# EAGLE library part REPICO_STEPPER (library stepper_module)
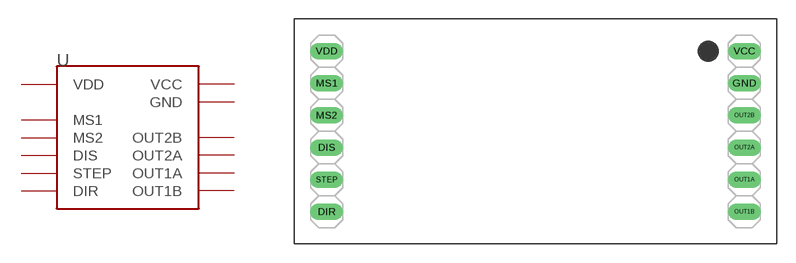
[diagram p0: symbol with the pads of REPICO_STEPPER; footprint REPICO_STEPPER]

Designator prefix -

## REPICO_STEPPER  [REPICO_STEPPER]
DIR  DIR  in
DIS  DIS  in
GND  GND  pwr
MS1  MS1  in
MS2  MS2  in
OUT1A  OUT1A  out
OUT1B  OUT1B  out
OUT2A  OUT2A  out
OUT2B  OUT2B  out
STEP  STEP  in
VCC  VCC  pwr
VDD  VDD  pwr

## Footprint REPICO_STEPPER (pad centres in mm)
drill 0.8 long: DIR 0,0; DIS 0,5.08; GND 33.02,10.16; MS1 0,10.16; MS2 0,7.62; OUT1A 33.02,2.54; OUT1B 33.02,0; OUT2A 33.02,5.08; OUT2B 33.02,7.62; STEP 0,2.54; VCC 33.02,12.7; VDD 0,12.7